# EAGLE library part MA05-2 (library 000001)
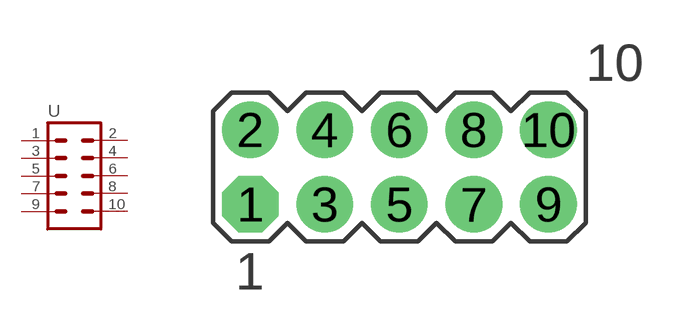
[diagram p66: symbol with the pads of MA05-2; footprint MA05-2]

Designator prefix -

## MA05-2  [MA05-2]
1  1  pas
2  2  pas
3  3  pas
4  4  pas
5  5  pas
6  6  pas
7  7  pas
8  8  pas
9  9  pas
10  10  pas

## Footprint MA05-2 (pad centres in mm)
drill 0.5 pad 1.93 octagon: 1 -5.08,-1.27
drill 0.5 pad 1.93 round: 2 -5.08,1.27; 3 -2.54,-1.27; 4 -2.54,1.27; 5 0,-1.27; 6 0,1.27; 7 2.54,-1.27; 8 2.54,1.27; 9 5.08,-1.27; 10 5.08,1.27